# Altium footprint library SMD Magnetics.PcbLib: 48 footprints (part 2 of 3)
Each footprint in its own frame and in the unit in brackets; x right, y up, seen from the top. Pads: shape width x height; smd on the part's side, far side on the other; paste and mask are expansions set on the pad; w line width, h text height; cw(c..) or ccw(c..) is an arc to the next point about the centre after c.
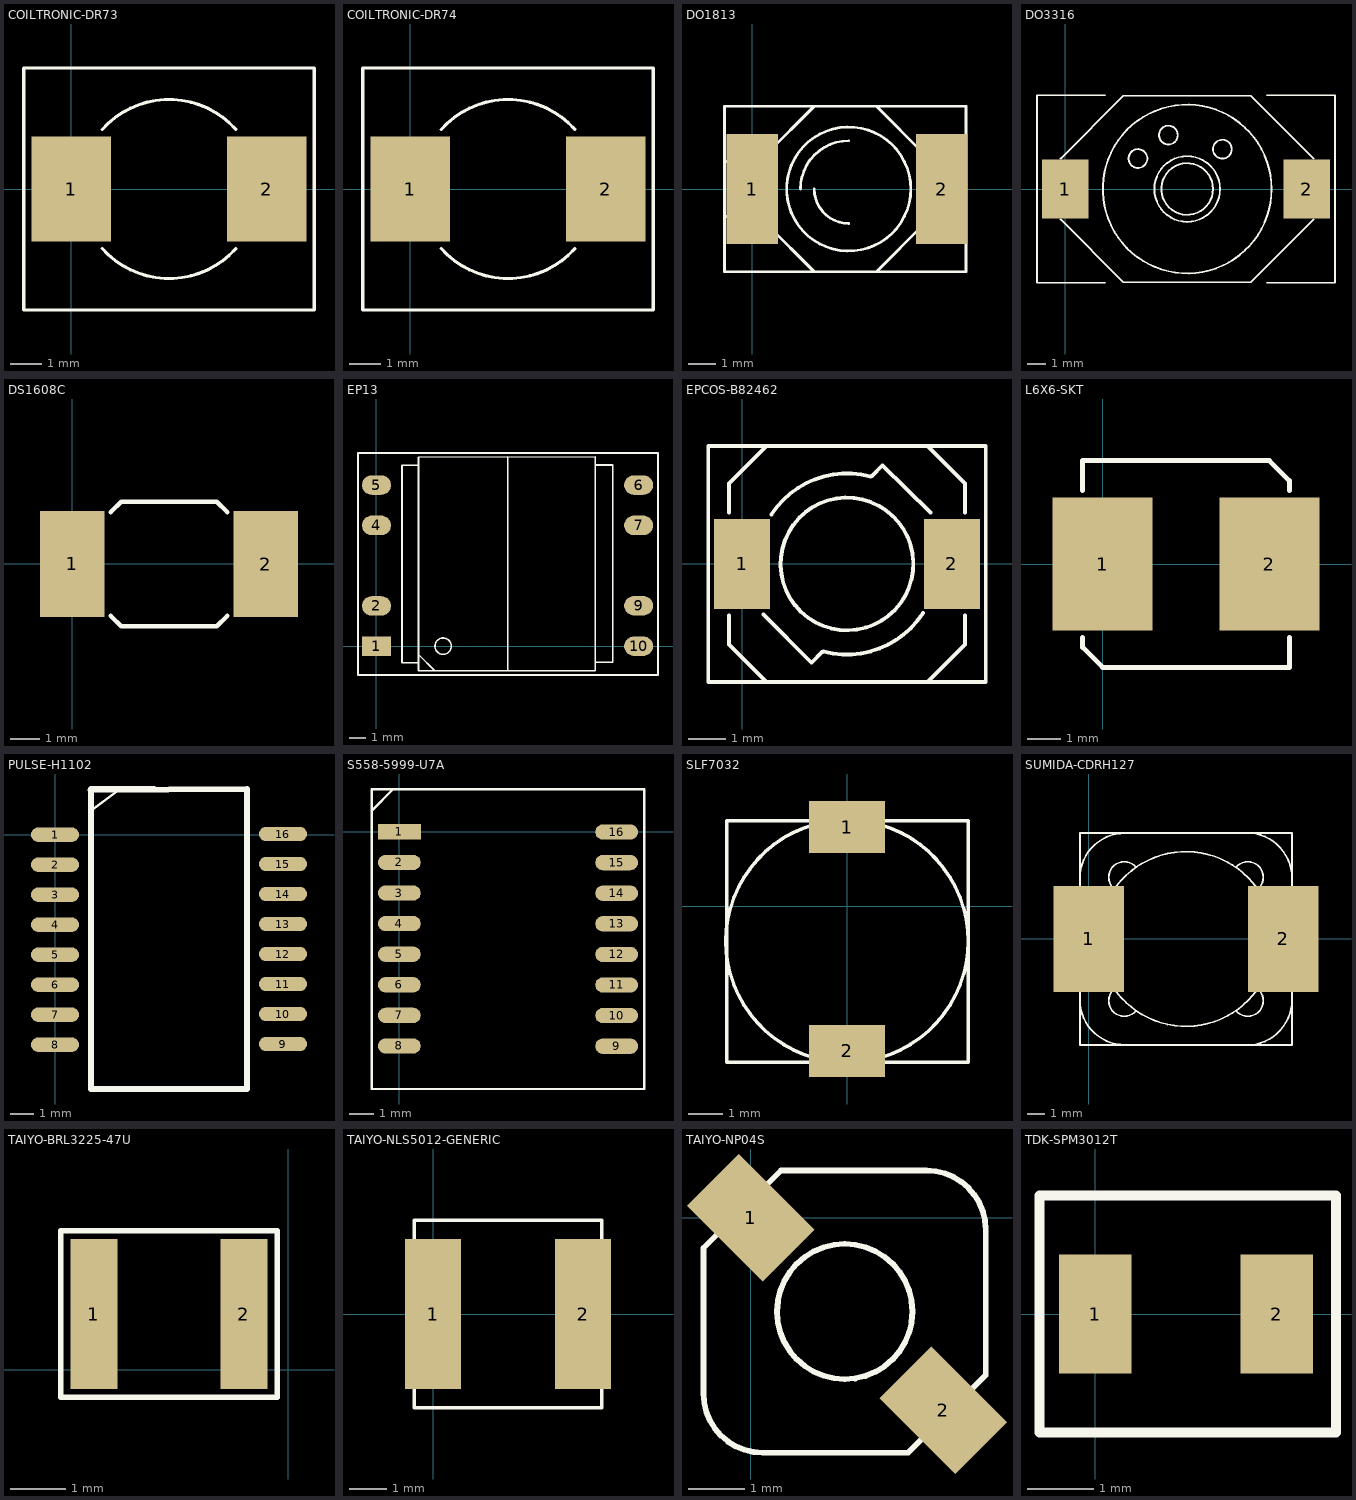
[diagram p1: the footprints below, top view; thin cyan lines are the x and y axes]

## COILTRONIC-DR73 [mm]
pads (2):
  rect 2.5x3.3 smd: 1(0,0) 2(6.147,0)
Top Overlay:
  lines w0.102: 0.964,-1.871 ccw(c3.073,0) 5.175,-1.879 ; 0.964,1.871 cw(c3.073,0) 5.175,1.879 ; -1.499,-3.81 7.645,-3.81 7.645,3.81 -1.499,3.81 -1.499,-3.81

## COILTRONIC-DR74 [mm]
pads (2):
  rect 2.5x3.3 smd: 1(0,0) 2(6.147,0)
Top Overlay:
  lines w0.102: 0.964,-1.871 ccw(c3.073,0) 5.175,-1.879 ; 0.964,1.871 cw(c3.073,0) 5.175,1.879 ; -1.499,-3.81 -1.499,3.81 7.645,3.81 7.645,-3.81 -1.499,-3.81

## DO1813 [mil]
pads (2):
  rect 75x160 smd: 1(0,0) 2(275,0)
Top Overlay:
  circle w4: c140,0 r90
  lines w4: -40,-40 20,-40 20,-50 90,-120 180,-120 250,-50 250,-40 310,-40 ; -40,0 -40,40 20,40 20,50 90,120 180,120 250,50 250,40 310,40 ; 70,0 cw(c140,0) 140,70 ; 90,0 ccw(c140,0) 140,-50 ; -40,-120 310,-120 310,120 -40,120 -40,-120

## DO3316 [mil]
pads (2):
  rect 100x125 smd: 1(0,0) 2(515,0)
Top Overlay:
  circle w4: c260,0 r180
  circle w4: c260,0 r55
  circle w4: c260,0 r70
  circle w4: c220,115 r20
  circle w4: c155,65 r20
  circle w4: c335,85 r20
  lines w4: -10,-65 123.98,-198.98 260,-198.98 396.02,-198.98 530,-65 ; -10,65 123.98,198.98 260,198.98 396.02,198.98 530,65 ; 85,-200 -60,-200 -60,0 -60,200 85,200 ; 430,-200 575,-200 575,0 575,200 430,200

## DS1608C [mil]
pads (2):
  rect 85x140 smd: 1(0,0) 2(255,0)
Top Overlay:
  lines w6: 50.89,68.39 64.5,82 ; 72.5,82 64.5,82 ; 78.5,-82 64.5,-82 ; 176.5,82 190.5,82 ; 182.5,-82 190.5,-82 ; 204.11,-68.39 190.5,-82 ; 64.5,-82 50.89,-68.39 64.5,-82 ; 64.5,-82 127.5,-82 190.5,-82 ; 64.5,82 127.5,82 190.5,82 ; 190.5,82 204.11,68.39 190.5,82

## EP13 [mm]
pads (8):
  rect 1.8x1.2 smd: 1(0,0)
  oval 1.8x1.2 smd: 2(0,2.489) 4(0,7.468) 5(0,9.957) 6(16.2,9.957) 7(16.2,7.468) 9(16.2,2.5) 10(16.2,0)
Top Overlay:
  circle w0.102: c4.118,0 r0.508
  lines w0.102: 2.591,-1.524 13.51,-1.5 ; 2.594,-1.524 2.594,11.684 13.51,11.7 ; 2.594,-1.016 1.578,-1.016 1.578,11.176 2.594,11.176 ; 2.594,-0.508 3.61,-1.524 ; 8.11,-1.508 8.11,11.7 ; 13.51,-1 14.61,-1 14.61,11.192 ; 13.51,11.2 14.61,11.2 ; 13.513,-1.499 13.513,11.684 ; -1.143,-1.778 17.399,-1.778 17.399,11.938 -1.143,11.938 -1.143,-1.778

## EPCOS-B82462 [mm]
pads (2):
  rect 1.5x2.4 smd: 1(0,0) 2(5.6,0)
Top Overlay:
  lines w0.102: -0.35,-1.375 -0.35,-2.15 0.65,-3.15 ; -0.35,1.375 -0.35,2.15 0.65,3.15 ; 0.575,-1.35 1.85,-2.631 2.131,-2.35 2.15,-2.35 ; 0.784,1.321 cw(c2.803,0.003) 3.426,2.333 ; 2.174,-2.333 ccw(c2.797,-0.003) 4.823,-1.311 ; 3.45,2.35 3.469,2.35 3.75,2.631 5.025,1.375 ; 4.568,0.04 cw(c2.799,0.001) 4.567,0.048 ; 5.95,-1.375 5.95,-2.15 4.95,-3.15 ; 5.95,1.375 5.95,2.15 4.95,3.15 ; 0.65,-3.15 -0.9,-3.15 -0.9,0 -0.9,3.15 0.65,3.15 ; 0.65,-3.15 4.95,-3.15 ; 0.65,3.15 4.95,3.15 ; 4.95,-3.15 6.5,-3.15 6.5,0 6.5,3.15 4.95,3.15

## L6X6-SKT [mm]
pads (2):
  rect 3x4 smd: 1(0,0) 2(5,0)
Top Overlay:
  lines w0.152: -0.6,-2.2 -0.6,-2.5 0,-3.1 5.6,-3.1 5.6,-2.2 ; -0.6,2.2 -0.6,3.1 5,3.1 5.6,2.5 5.6,2.2

## PULSE-H1102 [mil]
pads (16):
  oval 80x24 smd: 1(0,0) 2(0,-50) 3(0,-100) 4(0,-150) 5(0,-200) 6(0,-250) 7(0,-300) 8(0,-350) 9(380,-348.82) 10(380,-298.82) 11(380,-248.82) 12(380,-198.82) 13(380,-148.82) 14(380,-98.82) 15(380,-48.82) 16(380,1.18)
Top Overlay:
  lines w4: 59.06,39.37 106.3,74.8
  lines w10: 59.06,74.8 320,76.18 320,-423.82 60,-423.82 60,76.18 165,76.18

## S558-5999-U7A [mil]
pads (16):
  rect 70x25 smd: 1(0,0)
  oval 70x25 smd: 2(0,-50) 3(0,-100) 4(0,-150) 5(0,-200) 6(0,-250) 7(0,-300) 8(0,-350) 9(355.09,-350.34) 10(355.09,-300.34) 11(355.09,-250.34) 12(355.09,-200.34) 13(355.09,-150.34) 14(355.09,-100.34) 15(355.09,-50.34) 16(355.09,-0.34)
Top Overlay:
  lines w4: -45,35 -10,70 ; -44.91,-420.34 -44.91,69.66 190.09,69.66 400.09,69.66 400.09,-420.34 -44.91,-420.34

## SLF7032 [mm]
pads (2):
  rect 2.2x1.5 smd: 1(0,2.286) 2(0,-4.191)
Top Overlay:
  circle w0.102: c0,-1.016 r3.505
  lines w0.102: -3.48,-4.521 -3.48,2.464 3.505,2.464 3.505,-4.521 -3.48,-4.521

## SUMIDA-CDRH127 [mm]
pads (2):
  rect 4x6 smd: 1(0,0) 2(11,0)
Top Overlay:
  circle w0.102: c5.5,0 r4.95
  lines w0.102: -0.524,-3.426 ccw(c2.051,-3.426) 2.051,-6.001 ; -0.524,3.424 cw(c2.051,3.424) 2.051,5.999 ; 1.432,-2.834 ccw(c2,-3.502) 2.667,-4.07 ; 1.432,2.833 cw(c2,3.5) 2.667,4.068 ; 8.334,-4.07 ccw(c9.002,-3.502) 9.57,-2.834 ; 8.334,4.068 cw(c9.002,3.5) 9.57,2.833 ; 8.926,-6.026 ccw(c8.926,-3.451) 11.501,-3.451 ; 8.926,6.024 cw(c8.926,3.449) 11.501,3.449 ; -0.499,-6.001 11.501,-6.001 11.501,5.999 -0.499,5.999 -0.499,-6.001

## TAIYO-BRL3225-47U [mm] "TOKO INDUCTOR DFE252012 SERIES"
pads (2):
  rect 0.85x2.7 smd mask+0.051: 1(-3.5,1) 2(-0.8,1)
Top Overlay:
  lines w0.102: -4.1,-0.5 -0.2,-0.5 -0.2,2.5 -4.1,2.5 -4.1,-0.5
3D body: height 1.2, standoff 0, extent -3.45,-0.2 -0.9,2.2
3D body: height 1.21, standoff 0, extent -3.8,-0.2 -3.4,2.2
3D body: height 1.21, standoff 0, extent -0.9,-0.2 -0.5,2.2
3D body: height 1.21, standoff 1.2, extent -2.108,0.806 -1.918,1.187
3D body: height 1.21, standoff 1.2, extent -2.654,0.806 -2.464,1.187
3D body: height 1.21, standoff 1.2, extent -2.388,0.806 -2.197,1.187

## TAIYO-NLS5012-GENERIC [mm] "TAIYO YUDEN NLS5012 BODY"
pads (2):
  rect 1.5x4 smd: 1(0,0) 2(4,0)
Top Overlay:
  lines w0.076: -0.11,-1.541 -0.11,1.1
  lines w0.102: -0.5,-2.5 4.5,-2.5 4.5,2.5 -0.5,2.5 -0.5,-2.5
3D body: height 0.4, standoff 0, extent -0.4,-1.9 0,1.9
3D body: height 0.4, standoff 0, extent 4,-1.9 4.4,1.9
3D body: height 0.3, standoff 0, extent -0.1,-2.1 4.1,2.1
3D body: height 1.2, standoff 0, extent -0.2,-2.5 4.2,2.5
3D body: height 1.21, standoff 0, extent 0.8,1.5 3.2,1.8
3D body: height 1.21, standoff 0, extent 0.035,-0.2 0.443,0.208

## TAIYO-NP04S [mm]
pads (2):
  rect 1.9x1.3 smd rot 135: 1(0,0) 2(3.412,-3.412)
Top Overlay:
  lines w0.102: 2.864,-1.664 cw(c1.666,-1.663) 2.864,-1.663 ; -0.836,-3.114 ccw(c0.214,-3.114) 0.214,-4.164 2.789,-4.164 4.164,-2.789 4.164,-0.214 ccw(c3.114,-0.214) 3.114,0.836 0.539,0.836 -0.836,-0.539 -0.836,-3.114

## TDK-SPM3012T [mm]
pads (2):
  rect 1.1x1.8 smd: 1(0,0) 2(2.751,0)
Top Overlay:
  lines w0.152: -0.849,-1.8 3.651,-1.8 3.651,1.7 3.651,1.8 2.151,1.8 -0.849,1.8 -0.849,-1.8
3D body: height 1.25, standoff 0.03, extent -0.249,-1.5 2.951,1.5
3D body: height 1.07, standoff 0, extent 2.351,-0.8 3.051,0.8
3D body: height 1.07, standoff 0, extent -0.349,-0.8 0.351,0.8